# Altium footprint library Images.PcbLib: 3 footprints
Each footprint in its own frame and in the unit in brackets; x right, y up, seen from the top. Pads: shape width x height; smd on the part's side, far side on the other; paste and mask are expansions set on the pad; w line width, h text height; cw(c..) or ccw(c..) is an arc to the next point about the centre after c.
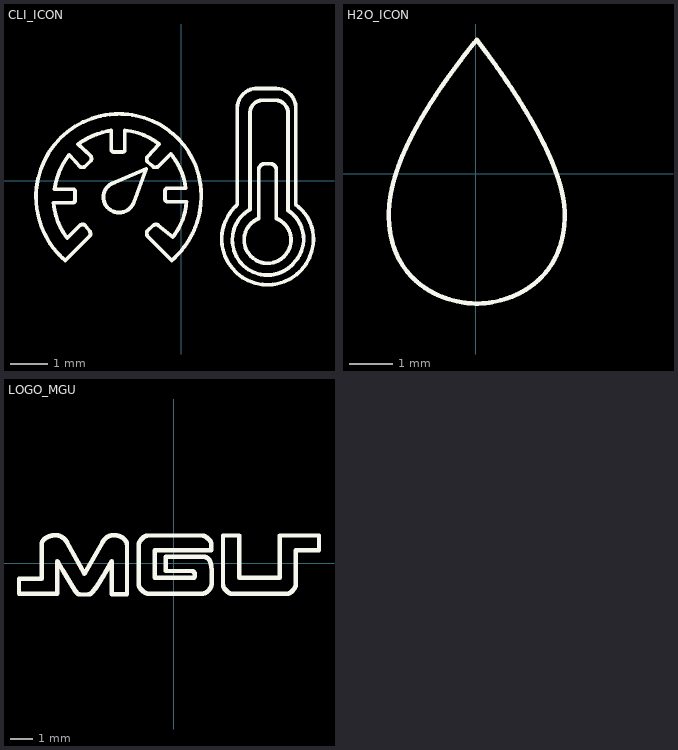
[diagram p0: the footprints below, top view; thin cyan lines are the x and y axes]

## CLI_ICON [mm]
Top Overlay:
  drawing of 2801 lines, arcs and shapes, not listed

## H2O_ICON [mm]
Top Overlay:
  drawing of 755 lines, arcs and shapes, not listed

## LOGO_MGU [mm]
Top Overlay:
  drawing of 14232 lines, arcs and shapes, not listed